# EAGLE library part 308D-B-22 (library pot)
POTENTIOMETER DUAL GANGE, 1/2" SQUARE
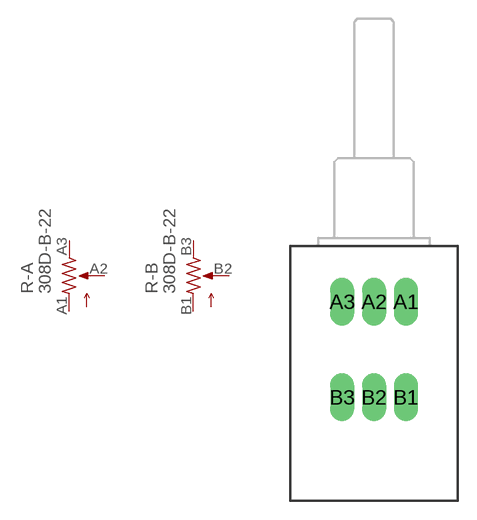
[diagram p1: symbol with the pads of 308D-B-22; footprint 308D-B-22]

Designator prefix R; gates -A=POT_US- -B=POT_US-

## 308D-B-22  [308D-B-22]
A1  -A:1  pas
A2  -A:2  pas
A3  -A:3  pas
B1  -B:1  pas
B2  -B:2  pas
B3  -B:3  pas

## Footprint 308D-B-22 (pad centres in mm)
308 Series Potentiometer Clarostat
drill 1.27 long: A1 2.54,0; A2 0,0; A3 -2.54,0; B1 2.54,-7.62; B2 0,-7.62; B3 -2.54,-7.62